# Altium integrated library Power Converter 5V as TO-3 replacement.IntLib: 16 symbols
Pins are listed as number, name and electrical type; pins without a type are passive.

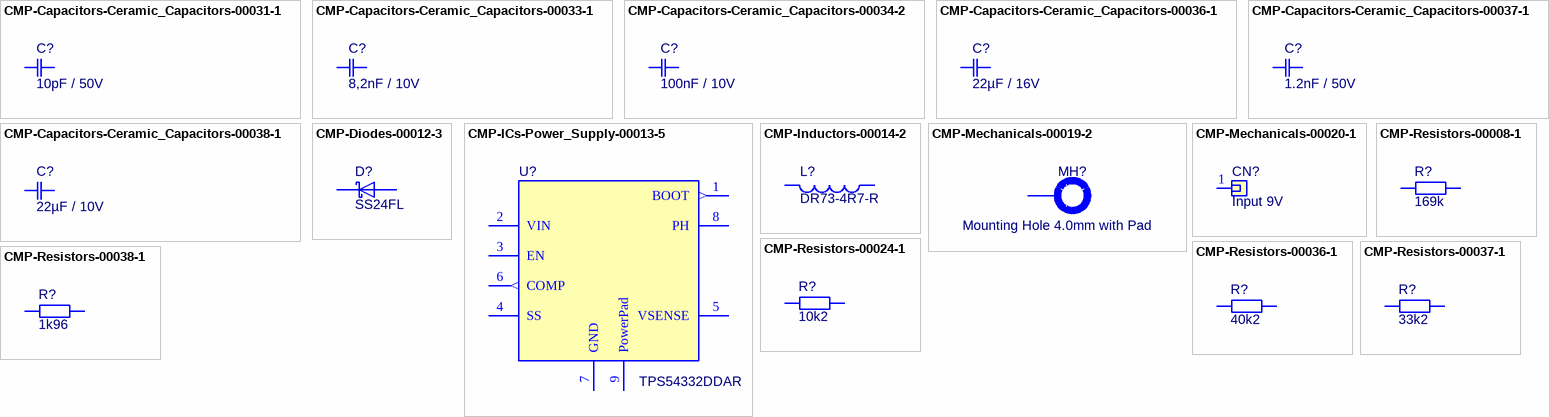
[diagram p0: symbols CMP-Capacitors-Ceramic_Capacitors-00031-1 to CMP-Resistors-00038-1]

## CMP-Capacitors-Ceramic_Capacitors-00031-1
designator C?, comment 10pF / 50V
Cap Ceramic 10pF 50VDC C0G 5% SMD 0805 Paper T/R; Manufacturer: Samsung; Manufacturer Part Number: CL21C100JBANNNC; Max Operating Temperature: 125°C; Radiation Hardening: No; Case/Package: 0805; Case Code (Metric): 2012; Mount: Surface Mount; Contact Plating: Tin; Tolerance: 5%; Depth: 1.25mm; Case Code (Imperial): 0805; Min Operating Temperature: -55°C; Thickness: 0.03inch; Package Quantity: 1; Height: 0.65mm; Length: 2mm; Voltage Rating: 50V; Capacitance: 10pF; Packaging: Tape and Reel; Dielectric: C0G; Width: 0.049inch; Component Type: Ceramic Capacitors
footprint CAP CER SMD 0805 10pF 50V Samsung CL21C100JBANNNC (Chip Capacitor, 2-Leads, Body 2,00x1,25mm, IPC Medium Density)
pins: 1, 2

## CMP-Capacitors-Ceramic_Capacitors-00033-1
designator C?, comment 8,2nF / 10V
Multilayer Ceramic Capacitors MLCC - SMD/SMT 0.0082uF 10volts 10%; Manufacturer: Murata; Manufacturer Part Number: GRM033R71A822KA01D; Dielectric: X7R; Capacitance: 8.2nF; Tolerance: 10%; Thickness: 0.013inch; Height: 0.3mm; Max Operating Temperature: 125°C; Voltage Rating (DC): 10V; Voltage Rating: 10V; Package Quantity: 15000; Width: 0.012inch; Min Operating Temperature: -55°C; Case Code (Imperial): 0201; Packaging: Tape and Reel; Termination: SMD/SMT; Case Code (Metric): 0603; Length: 0.6mm; Mount: Surface Mount; Radiation Hardening: No; Depth: 0.3mm; Case/Package: 0201; Component Type: Ceramic Capacitors
footprint CAP CER SMD 0201 8,2nF 10V Murata GRM033R71A822KA01D (Chip Capacitor, 2-Leads, Body 0,60x0,30mm, IPC Medium Density)
pins: 1, 2

## CMP-Capacitors-Ceramic_Capacitors-00034-2
designator C?, comment 100nF / 10V
CAP CER 0.1UF 10V X7R 0402; Manufacturer: Murata; Manufacturer Part Number: GRM155R71A104KA01D; Tolerance: 10%; Dissipation Factor: 0.035%; Number of Pins: 2; Termination: SMD/SMT; REACH SVHC: No SVHC; Length: 1mm; Case Code (Metric): 1005; Dielectric: X7R; Capacitance: 100nF; Width: 0.02inch; Package Quantity: 1; Packaging: Tape and Reel; Height: 0.5mm; Thickness: 0.022inch; Max Operating Temperature: 125°C; Voltage: 10V; Voltage Rating (DC): 10V; Depth: 0.5mm; Case Code (Imperial): 0402; Radiation Hardening: No; Case/Package: 0402; Min Operating Temperature: -55°C; Voltage Rating: 10V; Mount: Surface Mount; Lead Free: Lead Free; Component Type: Ceramic Capacitors
footprint CAP CER SMD 0402 100nF 10V Murata GRM155R71A104KA01D (Chip Capacitor, 2-Leads, Body 1,00x0,50mm, IPC Medium Density)
pins: 1, 2

## CMP-Capacitors-Ceramic_Capacitors-00036-1
designator C?, comment 22µF / 16V
Ceramic capacitor SMD 1210 22 µF 16 V 20 %; Manufacturer: Murata; Manufacturer Part Number: GRM32ER61C226ME20L; Capacitance: 22uF; Tolerance: 20%; Dielectric: X5R; Width: 0.098inch; Mount: Surface Mount; Material: Ceramic; Package Quantity: 1000; Depth: 2.5mm; Voltage Rating (DC): 16V; Thickness: 0.106inch; Length: 3.2mm; Radiation Hardening: No; Voltage Rating: 16V; Termination: SMD/SMT; Case/Package: 1210; Lead Free: Lead Free; Height: 2.5mm; Min Operating Temperature: -55°C; Max Operating Temperature: 85°C; Voltage: 16V; Packaging: Tape and Reel; Case Code (Metric): 3225; Case Code (Imperial): 1210; Component Type: Ceramic Capacitors
footprint CAP CER SMD 1210 22µF 16V Murata GRM32ER61C226ME20L (Chip Capacitor, 2-Leads, Body 3,20x2,50mm, IPC Medium Density)
pins: 1, 2

## CMP-Capacitors-Ceramic_Capacitors-00037-1
designator C?, comment 1.2nF / 50V
Ceramic capacitor SMD-0805 1.2nF /50V NP0# J +-5% SAMSUNG , RoHS; Manufacturer Part Number: CL21C122JBFNNNE; Tolerance: 5%; Voltage Rating: 50V; Lead Free: Lead Free; Width: 0.049inch; Capacitance: 1.2nF; Max Operating Temperature: 125°C; Case Code (Imperial): 0805; Packaging: Cut Tape; Thickness: 0.053inch; Mount: Surface Mount; Case/Package: 0805; Min Operating Temperature: -55°C; Case Code (Metric): 2012; Package Quantity: 1; Length: 0.079inch; Voltage Rating (DC): 50V; Manufacturer: Samsung; Component Type: Ceramic Capacitors
footprint CAP CER SMD 0805 1.2nF 50V Samsung CL21C122JBFNNNE (Chip Capacitor, 2-Leads, Body 2,00x1,25mm, IPC Medium Density)
pins: 1, 2

## CMP-Capacitors-Ceramic_Capacitors-00038-1
designator C?, comment 22µF / 10V
Multilayer Ceramic Capacitors MLCC - SMD/SMT 0805 22uF 10volts X5R 20%; Manufacturer: Murata; Manufacturer Part Number: GRM21BR61A226ME44L; Dissipation Factor: 0.035%; Mount: Surface Mount; Package Quantity: 3000; Weight: 0.000335oz; Packaging: Tape and Reel; Voltage: 10V; Composition: Ceramic; Voltage Rating (DC): 10V; Depth: 1.25mm; Capacitance: 22uF; Max Operating Temperature: 85°C; Length: 2mm; Height: 1.25mm; Voltage Rating: 10V; Case/Package: 0805; Width: 1.25mm; Case Code (Imperial): 0805; Termination: SMD/SMT; Min Operating Temperature: -55°C; Dielectric: X5R; Thickness: 0.057inch; Case Code (Metric): 2012; Dielectric Material: Ceramic; Lead Free: Lead Free; Tolerance: 20%; Component Type: Ceramic Capacitors
footprint CAP CER SMD 0805 22µF 10V Murata GRM21BR61A226ME44L (Chip Capacitor, 2-Leads, Body 2,00x1,25mm, IPC Medium Density)
pins: 1, 2

## CMP-Diodes-00012-3
designator D?, comment SS24FL
40V, 2A SCHOTTKY IN SOD123F; Manufacturer: ON Semiconductor / Fairchild; Reverse Recovery Time: 9.495ns; Element Configuration: Single; Max Forward Surge Current (Ifsm): 50A; Case/Package: SOD; Mount: Surface Mount; Packaging: Tape and Reel; Weight: 0.0276g; Number of Pins: 2; Max Reverse Voltage (DC): 40V; Max Repetitive Reverse Voltage (Vrrm): 40V; Average Rectified Current: 2A; Manufacturer Part Number: SS24FL; Component Type: Diodes
footprint SS24FL (Schottky Dioden & Gleichrichter 40V, 2A SCHOTTKY)
pins: 1, 2

## CMP-ICs-Power_Supply-00013-5
designator U?, comment TPS54332DDAR
TEXAS INSTRUMENTS - TPS54332DDAR - DC/DC CONV, BUCK, 1MHZ, SOIC-8; Quiescent Current: 82uA; Min Output Voltage: 800mV; Output Configuration: Positive; Synchronous Rectifier: No; Number of Outputs: 1; Output Type: Adjustable; Max Output Current: 3.5A; Max Output Voltage: 26.04V; Operating Supply Voltage: 28V; Min Supply Voltage: 3.5V; Output Voltage: 25V; Lead Free: Contains Lead; Length: 5mm; Max Operating Temperature: 150°C; Number of Pins: 8; REACH SVHC: No SVHC; Contact Plating: Gold; Package Quantity: 2500; Max Input Voltage: 28V; Output Current: 3.5A; Width: 4mm; Packaging: Tape and Reel; Mount: Surface Mount; Radiation Hardening: No; Min Operating Temperature: -40°C; Switching Frequency: 1MHz; Height: 1.55mm; Min Input Voltage: 3.5V; Weight: 0.00249oz; Manufacturer: Texas Instruments; Manufacturer Part Number: TPS54332DDAR; Component Type: Power Supplies
footprint DC-DC Converter (Buck) TPS54332DDAR SO-Power Pad
pins: 1 BOOT (out), 2 VIN (power), 3 EN, 4 SS, 5 VSENSE, 6 COMP (out), 7 GND (power), 8 PH (power), 9 PowerPad (power)

## CMP-Inductors-00014-2
designator L?, comment DR73-4R7-R
Ind Power Shielded Wirewound 4.7uH 20% 100KHz Ferrite 3.09A T/R; Manufacturer: Eaton Cooper; DC Resistance (DCR): 29.7mR; Saturation Current: 3.78A; RMS Current (Irms): 3.09A; Self Resonant Frequency: 100kHz; Shielding: Shielded; Core Material: Ferrite; REACH SVHC: No SVHC; Test Frequency: 100kHz; Depth: 7.6mm; Length: 7.6mm; Composition: Wirewound; Tolerance: 20%; Termination: SMD/SMT; Inductance Tolerance: 20%; Radiation Hardening: No; Case/Package: Nonstandard; Weight: 0.032oz; Current Rating: 3.09A; Package Quantity: 1350; Packaging: Tape and Reel; Lead Free: Lead Free; Min Operating Temperature: -40°C; Military Standard: Not; Max Operating Temperature: 125°C; Mount: Surface Mount; Height - Seated (Max): 0.139inch; Inductance: 4.7uH; Width: 6mm; Number of Pins: 2; Height: 3.55mm; Max DC Current: 3.09A; Manufacturer Part Number: DR73-4R7-R; Component Type: Inductors
footprint Inductor SMD 4.7µH Eatont DR73-4R7-R (4,7µH Geschirmt Drahtgewickelt Induktor 3,09A 29,7mOhm Nicht standardmäßig)
pins: 1, 2

## CMP-Mechanicals-00019-2
designator MH?, comment Mounting Hole 4.0mm with Pad  (no BOM)
Component Type: Mechanicals
footprint Mounting Hole 4mm with Pad
pins: 1 (power)

## CMP-Mechanicals-00020-1
designator CN?, comment Input 9V
CONN PC PIN CIRC 0.040DIA TIN; Manufacturer: Mill-Max; Manufacturer Part Number: 3125-2-00-80-00-00-08-0; Gender: Male; Board Thickness: 0.062inch; Hole Diameter: 1.09mm; Insulation: Non-Insulated; Mounting Hole Diameter: 0.043inch; Outside Diameter: 1.8mm; Flange Diameter: 0.071inch; Plating: Tin; Packaging: Bulk; Termination: PC Pin; Contact Material: Brass; Mount: Through Hole; Contact Plating: Tin; Length: 0.402inch; Package Quantity: 500; Material: Brass; Component Type: Mechanicals
footprint Printed Circuit Pin 1.02mm 3125-2-00-80-00-00-08-0
pins: 1

## CMP-Resistors-00008-1
designator R?, comment 169k
VISHAY - CRCW0402169KFKED - RES, THICK FILM, 169K, 1%, 0.063W, 0402, REEL; Voltage Rating: 50V; Max Power Dissipation: 63mW; Temperature Coefficient: 100ppm/°C; Resistance: 169kR; Case Code (Metric): 1005; Mount: Surface Mount; Number of Pins: 2; Width: 0.02inch; Lead Free: Lead Free; Contact Plating: Tin; Depth: 0.5mm; Height: 0.35mm; Case/Package: 0402; Max Operating Temperature: 155°C; Power Rating: 63mW; Tolerance: 1%; Composition: Thick Film; Packaging: Tape and Reel; Min Operating Temperature: -55°C; Radiation Hardening: No; Military Standard: Not; Case Code (Imperial): 0402; Weight: 2.3E-05oz; REACH SVHC: Unknown; Voltage Rating (DC): 50V; Package Quantity: 10; Number of Terminations: 2; Features: Automotive AEC-Q200; Length: 1mm; Termination: SMD/SMT; Manufacturer: Vishay; Manufacturer Part Number: CRCW0402169KFKED; Component Type: Resistors
footprint RES SMD 0402 169k Vishay CRCW0402169KFKED (Chip Resistor, 2-Leads, Body 1,00x0,50mm, IPC Medium Density)
pins: 1, 2

## CMP-Resistors-00024-1
designator R?, comment 10k2
VISHAY         CRCW040210K2FKED.            Surface Mount Chip Resistor, Thick Film, AEC-Q200 CRCW Series, 10.2 kohm, 63 mW,  1%, 50 V; Temperature Coefficient: 100ppm/°C; Resistance: 10.2kR; Power Rating: 63mW; Voltage Rating: 50V; Military Standard: Not; Depth: 0.5mm; Case Code (Imperial): 0402; Weight: 2.3E-05oz; Composition: Thick Film; Length: 1mm; Radiation Hardening: No; Features: Automotive AEC-Q200; Number of Pins: 2; Max Power Dissipation: 63mW; Contact Plating: Tin; REACH SVHC: Unknown; Max Operating Temperature: 155°C; Termination: SMD/SMT; Mount: Surface Mount; Number of Terminations: 2; Width: 0.5mm; Min Operating Temperature: -55°C; Package Quantity: 10; Tolerance: 1%; Case Code (Metric): 1005; Packaging: Tape and Reel; Height: 0.35mm; Case/Package: 0402; Manufacturer: Vishay; Manufacturer Part Number: CRCW040210K2FKED; Component Type: Resistors
footprint RES SMD 0402 10k2 Vishay CRCW040210K2FKED (Chip Resistor, 2-Leads, Body 1,00x0,50mm, IPC Medium Density)
pins: 1, 2

## CMP-Resistors-00036-1
designator R?, comment 40k2
Res Thick Film 0402 40.2K Ohm 1% 1/16W 100ppm/C Molded SMD SMD Paper T/R; Manufacturer: Vishay; Manufacturer Part Number: CRCW040240K2FKED; Voltage Rating: 50V; Power Rating: 63mW; Temperature Coefficient: 100ppm/°C; Resistance: 40.2kR; Max Operating Temperature: 155°C; Packaging: Tape and Reel; Width: 0.5mm; Composition: Thick Film; Contact Plating: Tin; REACH SVHC: Unknown; Weight: 2.3E-05oz; Case Code (Imperial): 0402; Radiation Hardening: No; Case/Package: 0402; Min Operating Temperature: -55°C; Depth: 0.5mm; Features: Automotive AEC-Q200; Termination: SMD/SMT; Tolerance: 1%; Case Code (Metric): 1005; Length: 1mm; Lead Free: Lead Free; Voltage Rating (DC): 50V; Max Power Dissipation: 63mW; Number of Terminations: 2; Military Standard: Not; Package Quantity: 10; Height: 0.35mm; Component Type: Resistors
footprint RES SMD 0402 40k2 Vishay CRCW040240K2FKED (Chip Resistor, 2-Leads, Body 1,00x0,50mm, IPC Medium Density)
pins: 1, 2

## CMP-Resistors-00037-1
designator R?, comment 33k2
Res Thick Film 0402 33.2K Ohm 1% 1/16W 100ppm/C Molded SMD Paper T/R; Manufacturer: Vishay; Manufacturer Part Number: CRCW040233K2FKED; Voltage Rating (DC): 50V; Resistance: 33.2kR; Power Rating: 63mW; Temperature Coefficient: 100ppm/°C; Width: 0.5mm; Case/Package: 0402; Max Operating Temperature: 155°C; Package Quantity: 10; Packaging: Tape and Reel; Radiation Hardening: No; Mount: Surface Mount; Voltage Rating: 50V; Contact Plating: Tin; Height: 0.35mm; Depth: 0.5mm; Min Operating Temperature: -55°C; Number of Terminations: 2; Case Code (Imperial): 0402; REACH SVHC: Unknown; Weight: 2.3E-05oz; Lead Free: Lead Free; Number of Pins: 2; Composition: Thick Film; Length: 1mm; Termination: SMD/SMT; Max Power Dissipation: 63mW; Case Code (Metric): 1005; Features: Automotive AEC-Q200; Military Standard: Not; Tolerance: 1%; Component Type: Resistors
footprint RES SMD 0402 33k2 Vishay CRCW040233K2FKED (Chip Resistor, 2-Leads, Body 1,00x0,50mm, IPC Medium Density)
pins: 1, 2

## CMP-Resistors-00038-1
designator R?, comment 1k96
VISHAY         CRCW04021K96FKED             RES, THICK FILM, 1K96, 1%, 0.063W, 0402; Voltage Rating: 50V; Temperature Coefficient: 100ppm/°C; Power Rating: 63mW; Resistance: 1.96kR; Radiation Hardening: No; Packaging: Tape and Reel; Tolerance: 1%; Termination: SMD/SMT; Weight: 2.3E-05oz; Composition: Thick Film; Case Code (Metric): 1005; Height: 0.35mm; Case/Package: 0402; Package Quantity: 10; Number of Terminations: 2; Number of Pins: 2; Depth: 0.5mm; Max Power Dissipation: 63mW; Max Operating Temperature: 155°C; Case Code (Imperial): 0402; Features: Automotive AEC-Q200; Width: 0.5mm; Length: 1mm; Contact Plating: Tin; Military Standard: Not; Min Operating Temperature: -55°C; REACH SVHC: Unknown; Manufacturer: Vishay; Manufacturer Part Number: CRCW04021K96FKED; Component Type: Resistors
footprint RES SMD 0402 1k96 Vishay CRCW04021K96FKED (Chip Resistor, 2-Leads, Body 1,00x0,50mm, IPC Medium Density)
pins: 1, 2